# EAGLE library part DLL-5566-14A_LCSC (library lcsc_parts)
Description: Connector Header 14 position 4.2mm Pitch 9A Through Hole -35℃~+105℃ Manufacturer: DLL MPN: DLL-5566-14A LCSC Part: C22365705 Category: Headers, Male Pins Datasheet: https://datasheet.lcsc.com/datasheet/pdf/0cdeea283c76abe596cbc0c4acf3f98e.pdf?productCode=C22365705
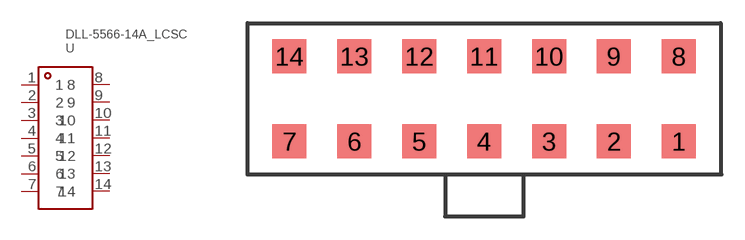
[diagram p20: symbol with the pads of CONN-TH_14P-P4.20_DLL-5566-14A; footprint CONN-TH_14P-P4.20_DLL-5566-14A]

Designator prefix U

## DLL-5566-14A_LCSC (CATEGORY: Headers, Male Pins; COLOR: Transparent; CONTACT_MATERIAL: Phosphor bronze; CONTACT_PLATING: Tin; CURRENT_RATING: 9A; DATASHEET: https://datasheet.lcsc.com/datasheet/pdf/0cdeea283c76abe596cbc0c4acf3f98e.pdf?productCode=C22365705; DESCRIPTION: Connector Header 14 position 4.2mm Pitch 9A Through Hole -35℃~+105℃; FLAME_RETARDANT_RATING: UL94V-0; LCSC_PART: C22365705; LCSC_STOCK: 884; MANUFACTURER: DLL; MOUNTING_TYPE: Through Hole; MPN: DLL-5566-14A; NUMBER_OF_PINS: 14P; NUMBER_OF_PINS_PER_ROW: 7; NUMBER_OF_ROWS: 2; OPERATING_TEMPERATURE: -35℃~+105℃; PARTNO: DLL-5566-14A; PIN_STRUCTURE: 2x7P; PITCH: 4.2mm; PLASTIC_MATERIAL: PA66; PRICING_1000: $0.2715/unit @ 1000; PRICING_50: $0.3652/unit @ 50; REFERENCE_SERIES: Mini-Fit(MX 4.2); ROW_SPACING: 4.2mm; VOLTAGE_RATING_MAX: 300V)  [CONN-TH_14P-P4.20_DLL-5566-14A]
1  1
2  2
3  3
4  4
5  5
6  6
7  7
8  8
9  9
10  10
11  11
12  12
13  13
14  14

## Footprint CONN-TH_14P-P4.20_DLL-5566-14A (pad centres in mm)
smd 2.2 x 2.2: 1 12.6,-2.75; 2 8.4,-2.75; 3 4.2,-2.75; 4 0,-2.75; 5 -4.2,-2.75; 6 -8.4,-2.75; 7 -12.6,-2.75; 8 12.6,2.75; 9 8.4,2.75; 10 4.2,2.75; 11 0,2.75; 12 -4.2,2.75; 13 -8.4,2.75; 14 -12.6,2.75